# Altium footprint library ECD.PcbLib: 19 footprints (part 1 of 2)
Each footprint in its own frame and in the unit in brackets; x right, y up, seen from the top. Pads: shape width x height; smd on the part's side, far side on the other; paste and mask are expansions set on the pad; w line width, h text height; cw(c..) or ccw(c..) is an arc to the next point about the centre after c.
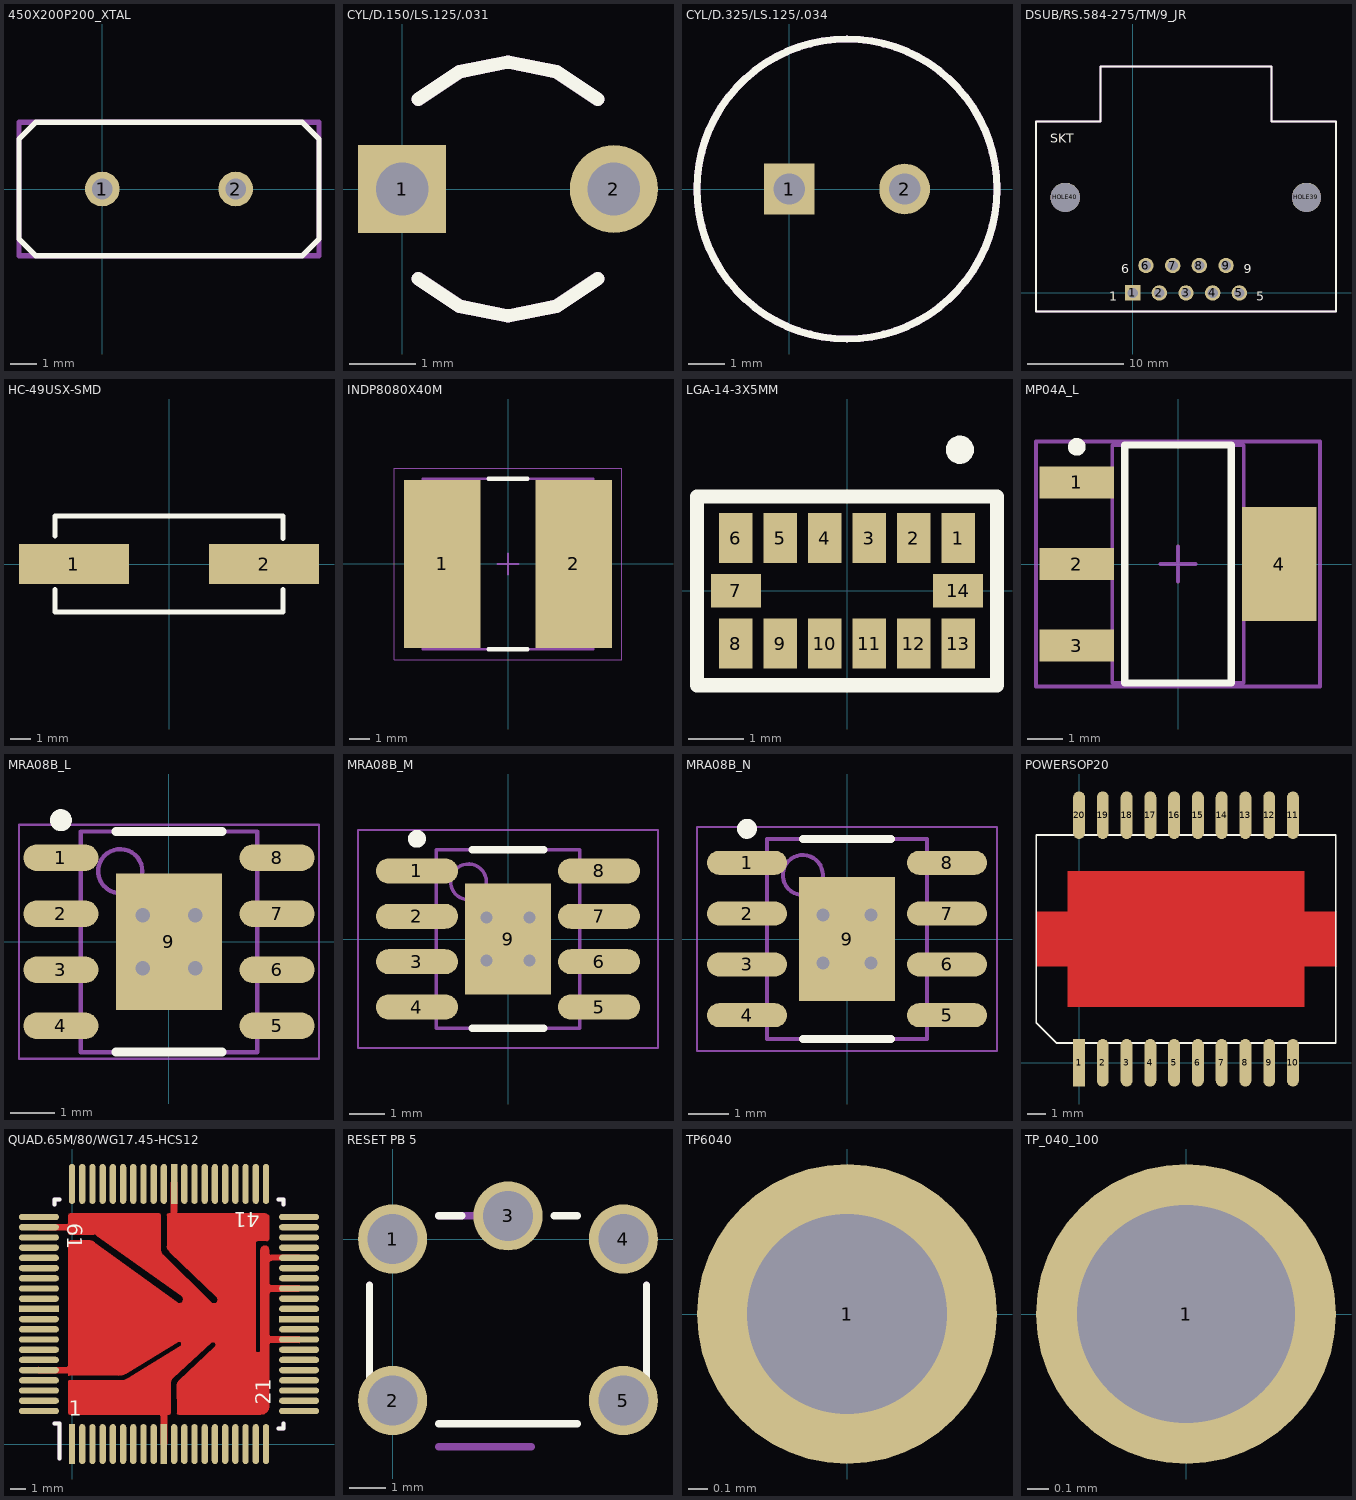
[diagram p0: the footprints below, top view; thin cyan lines are the x and y axes]

## 450X200P200_XTAL [mil]
pads (2):
  round 52 hole 31: 1(0,0) 2(200,0)
Top Overlay:
  lines w8: -125,-75 -125,75 -100,100 300,100 325,75 325,-75 300,-100 -100,-100 -125,-75
Mechanical 1:
  lines w8: -125,-100 -125,100 325,100 325,-100 -125,-100

## CYL/D.150/LS.125/.031 [mil]
pads (2):
  rect 52x52 hole 31: 1(0,0)
  round 52 hole 31: 2(125,0)
Top Overlay:
  lines w8: 9.5,-53 33.9,-69.2 62.5,-74.9 91.1,-69.2 115.5,-53 ; 9.5,53 33.9,69.2 62.5,74.9 91.1,69.2 115.5,53
Mechanical 1:
  lines w8: 9.5,-53 33.9,-69.2 62.5,-74.9 91.1,-69.2 115.5,-53 ; 9.5,53 33.9,69.2 62.5,74.9 91.1,69.2 115.5,53

## CYL/D.325/LS.125/.034 [mil]
pads (2):
  rect 55x55 hole 34: 1(0,0)
  round 55 hole 34: 2(125,0)
Top Overlay:
  lines w8: -100,0 cw(c62.5,0) 62.5,162.5 cw(c62.5,0) 225,0 cw(c62.5,0) 62.5,-162.5 cw(c62.5,0) -100,0
Mechanical 1:
  lines w8: -100,0 cw(c62.5,0) 62.5,162.5 cw(c62.5,0) 225,0 cw(c62.5,0) 62.5,-162.5 cw(c62.5,0) -100,0

## DSUB/RS.584-275/TM/9_JR [mil]
pads (11):
  rect 63x63 hole 42: 1(0,0)
  round 63 hole 42: 2(109,0) 3(218,0) 4(327,0) 5(436,0) 6(54.5,112) 7(163.5,112) 8(272.5,112) 9(381.5,112)
  round 120 hole 120: HOLE39(710,390) HOLE40(-275,390)
Top Overlay:
  lines w8: -394.5,-75.5 -394.5,699.5 -132,699.5 -132,924.5 568,924.5 568,699.5 830.5,699.5 830.5,-75.5 -394.5,-75.5
  text "1" at -95.88,-31.13 h37.5
  text "6" at -45.88,81.38 h37.5
  text "5" at 504.12,-31.13 h37.5
  text "9" at 454.12,81.38 h37.5
  text "SKT" at -336.17,612.38 h37.5
Mechanical 1:
  lines w8: -394.5,-75.5 -394.5,699.5 -132,699.5 -132,924.5 568,924.5 568,699.5 830.5,699.5 830.5,-75.5 -394.5,-75.5
  text "6" at -45.88,81.38 h37.5
  text "5" at 504.12,-31.13 h37.5
  text "9" at 454.12,81.38 h37.5
  text "SKT" at -336.17,612.38 h37.5
  text "1" at -95.88,-31.13 h37.5

## HC-49USX-SMD [mm]
pads (2):
  rect 5.5x2 smd: 1(-4.75,0) 2(4.75,0)
Top Overlay:
  lines w0.254: -5.7,-1.285 -5.7,-2.4 5.7,-2.4 5.7,-1.285 ; -5.7,1.412 -5.7,2.4 5.7,2.4 5.7,1.285
3D body "User Library-HC49_Crystal_SM.step": height 4.5, standoff -0.01, extent -6.95,-2.5 6.95,2.5

## INDP8080X40M [mm] "Precision Wire Wound Inductor, 2-Leads, Body 8.00x8.00mm, IPC Low Density"
height 4
pads (2):
  rect 3.7x8.2 smd: 1(-3.2,0) 2(3.2,0)
Top Overlay:
  lines w0.2: -0.95,-4.15 0.95,-4.15 ; -0.95,4.15 0.95,4.15
Mechanical 13:
  lines w0.1: -4.15,-4.15 4.15,-4.15 4.15,4.15 -4.15,4.15 -4.15,-4.15
Mechanical 15:
  lines w0.05: -5.525,-4.65 5.525,-4.65 5.525,4.65 -5.525,4.65 -5.525,-4.65
  lines w0.1: -0.5,0 0.5,0 ; 0,-0.5 0,0.5
3D body "srn8040.stp": height 4, standoff 0, extent -4,-4 4,4

## LGA-14-3X5MM [mm]
pads (14):
  rect 0.6x0.9 smd: 1(2,0.95) 2(1.2,0.95) 3(0.4,0.95) 4(-0.4,0.95) 5(-1.2,0.95) 6(-2,0.95) 8(-2,-0.95) 9(-1.2,-0.95) 10(-0.4,-0.95) 11(0.4,-0.95) 12(1.2,-0.95) 13(2,-0.95)
  rect 0.9x0.6 smd: 7(-2,0) 14(2,0)
Top Overlay:
  circle w0.254: c2.032,2.54 r0.127
  lines w0.254: -2.7,-1.7 2.7,-1.7 2.7,1.7 -2.7,1.7 -2.7,-1.7
3D body: height 1, standoff 0, extent -2.54,-1.524 2.54,1.524

## MP04A_L [mm] "SOT223, 4-Leads, Body 6.5x3.5mm, Pitch 2.3mm, Lead Span 7mm, IPC High Density"
height 1.8
pads (4):
  rect 2.1x0.9 smd: 1(-2.85,2.3) 2(-2.85,0) 3(-2.85,-2.3)
  rect 2.1x3.2 smd: 4(2.85,0)
Top Overlay:
  circle w0.25: c-2.85,3.3 r0.125
  lines w0.2: -1.5,-3.35 1.5,-3.35 1.5,3.35 -1.5,3.35 -1.5,-3.35
Mechanical 13:
  lines w0.1: -1.85,-3.35 1.85,-3.35 1.85,3.35 -1.85,3.35 -1.85,-3.35
Mechanical 15:
  lines w0.1: -0.5,0 0.5,0 ; 0,-0.5 0,0.5 ; -4,-3.45 4,-3.45 4,3.45 -4,3.45 -4,-3.45
3D body: height 1.8, standoff 0, extent -1.85,-3.35 1.85,3.35

## MRA08B_L [mm] "SOIC, 8-Leads, Body 4.9x3.9mm, Pitch 1.27mm, Exposed Pad, IPC High Density"
height 1.68
pads (9):
  oval 1.7x0.6 smd: 1(-2.45,1.905) 2(-2.45,0.635) 3(-2.45,-0.635) 4(-2.45,-1.905) 5(2.45,-1.905) 6(2.45,-0.635) 7(2.45,0.635) 8(2.45,1.905)
  rect 2.41x3.1 smd: 9(0,0)
via -0.6,0.6 diameter 0.66 hole 0.33
via 0.6,0.6 diameter 0.66 hole 0.33
via 0.6,-0.6 diameter 0.66 hole 0.33
via -0.6,-0.6 diameter 0.66 hole 0.33
Top Overlay:
  circle w0.25: c-2.45,2.755 r0.125
  lines w0.2: -1.2,-2.5 1.2,-2.5 ; -1.2,2.5 1.2,2.5
Mechanical 13:
  circle w0.1: c-1.105,1.6 r0.5
  lines w0.1: -2.005,-2.5 -2.005,2.5 2.005,2.5 2.005,-2.5 -2.005,-2.5
Mechanical 15:
  lines w0.05: -3.4,-2.65 -3.4,2.65 3.4,2.65 3.4,-2.65 -3.4,-2.65
  lines w0.1: -0.5,0 0.5,0 ; 0,-0.5 0,0.5
3D body: height 1.68, standoff 0.03, extent -2.005,-2.5 2.005,2.5

## MRA08B_M [mm] "SOIC, 8-Leads, Body 4.9x3.9mm, Pitch 1.27mm, Thermal Pad, IPC Low Density"
height 1.68
pads (9):
  oval 2.3x0.7 smd: 1(-2.55,1.905) 2(-2.55,0.635) 3(-2.55,-0.635) 4(-2.55,-1.905) 5(2.55,-1.905) 6(2.55,-0.635) 7(2.55,0.635) 8(2.55,1.905)
  rect 2.41x3.1 smd: 9(0,0)
via -0.6,0.6 diameter 0.66 hole 0.33
via 0.6,0.6 diameter 0.66 hole 0.33
via 0.6,-0.6 diameter 0.66 hole 0.33
via -0.6,-0.6 diameter 0.66 hole 0.33
Top Overlay:
  circle w0.25: c-2.55,2.805 r0.125
  lines w0.2: -1,-2.5 1,-2.5 ; -1,2.5 1,2.5
Mechanical 13:
  circle w0.1: c-1.105,1.6 r0.5
  lines w0.1: -2.005,-2.5 -2.005,2.5 2.005,2.5 2.005,-2.5 -2.005,-2.5
Mechanical 15:
  lines w0.05: -4.2,-3.05 -4.2,3.05 4.2,3.05 4.2,-3.05 -4.2,-3.05
  lines w0.1: -0.5,0 0.5,0 ; 0,-0.5 0,0.5
3D body: height 1.68, standoff 0.03, extent -2.005,-2.5 2.005,2.5

## MRA08B_N [mm] "SOIC, 8-Leads, Body 4.9x3.9mm, Pitch 1.27mm, Exposed Pad, IPC Medium Density"
height 1.68
pads (9):
  oval 2x0.6 smd: 1(-2.5,1.905) 2(-2.5,0.635) 3(-2.5,-0.635) 4(-2.5,-1.905) 5(2.5,-1.905) 6(2.5,-0.635) 7(2.5,0.635) 8(2.5,1.905)
  rect 2.41x3.1 smd: 9(0,0)
via -0.6,-0.6 diameter 0.66 hole 0.33
via 0.6,-0.6 diameter 0.66 hole 0.33
via 0.6,0.6 diameter 0.66 hole 0.33
via -0.6,0.6 diameter 0.66 hole 0.33
Top Overlay:
  circle w0.25: c-2.5,2.755 r0.125
  lines w0.2: -1.1,-2.5 1.1,-2.5 ; -1.1,2.5 1.1,2.5
Mechanical 13:
  circle w0.1: c-1.105,1.6 r0.5
  lines w0.1: -2.005,-2.5 -2.005,2.5 2.005,2.5 2.005,-2.5 -2.005,-2.5
Mechanical 15:
  lines w0.05: -3.75,-2.8 -3.75,2.8 3.75,2.8 3.75,-2.8 -3.75,-2.8
  lines w0.1: -0.5,0 0.5,0 ; 0,-0.5 0,0.5
3D body: height 1.68, standoff 0.03, extent -2.005,-2.5 2.005,2.5

## POWERSOP20 [mil]
pads (20):
  rect 25x100 smd: 1(0,0)
  oval 25x100 smd: 2(50,0) 3(100,0) 4(150,0) 5(200,0) 6(250,0) 7(300,0) 8(350,0) 9(400,0) 10(450,0) 11(450,520.85) 12(400,520.85) 13(350,520.85) 14(300,520.85) 15(250,520.85) 16(200,520.85) 17(150,520.85) 18(100,520.85) 19(50,520.85) 20(0,520.85)
Top Layer:
  region: 473.38,402.53 473.54,402.15 473.54,318.06 539.95,318.06 540.33,317.9 540.49,317.52 540.49,203.33 540.33,202.95 539.95,202.79 473.54,202.79 473.54,118.7 473.38,118.32 473,118.16 -23.03,118.16 -23.42,118.32 -23.57,118.7 -23.57,202.79 -89.95,202.79 -90.33,202.95 -90.49,203.33 -90.49,317.52 -90.33,317.9 -89.95,318.06 -23.57,318.06 -23.57,402.15 -23.42,402.53 -23.03,402.69 473,402.69
Top Overlay:
  lines w3.93: -89.95,84.63 -46.65,41.33 -39.37,41.33 539.95,41.33 539.95,479.52 -89.95,479.52 -89.95,84.63
Top Paste:
  region: 473.38,402.53 473.54,402.15 473.54,318.06 539.95,318.06 540.33,317.9 540.49,317.52 540.49,203.33 540.33,202.95 539.95,202.79 473.54,202.79 473.54,118.7 473.38,118.32 473,118.16 -23.03,118.16 -23.42,118.32 -23.57,118.7 -23.57,202.79 -89.95,202.79 -90.33,202.95 -90.49,203.33 -90.49,317.52 -90.33,317.9 -89.95,318.06 -23.57,318.06 -23.57,402.15 -23.42,402.53 -23.03,402.69 473,402.69
Top Solder:
  region: 473.38,402.53 473.54,402.15 473.54,318.06 539.95,318.06 540.33,317.9 540.49,317.52 540.49,203.33 540.33,202.95 539.95,202.79 473.54,202.79 473.54,118.7 473.38,118.32 473,118.16 -23.03,118.16 -23.42,118.32 -23.57,118.7 -23.57,202.79 -89.95,202.79 -90.33,202.95 -90.49,203.33 -90.49,317.52 -90.33,317.9 -89.95,318.06 -23.57,318.06 -23.57,402.15 -23.42,402.53 -23.03,402.69 473,402.69
3D body "User Library-HSOP_20pin_IC-MC33886PVW.step": height 127.87, standoff 1.88, extent -89.96,-20.51 539.96,540.51

## QUAD.65M/80/WG17.45-HCS12 [mil]
pads (80):
  rect 16x100 smd paste-3897.64: 1(0,0) 10(230.4,0) 50(256,652.4)
  oval 16x100 smd paste-3897.64: 2(25.6,0) 3(51.2,0) 4(76.8,0) 5(102.4,0) 6(128,0) 7(153.6,0) 8(179.2,0) 9(204.8,0) 11(256,0) 12(281.6,0) 13(307.2,0) 14(332.8,0) 15(358.4,0) 16(384,0) 17(409.6,0) 18(435.2,0) 19(460.8,0) 20(486.4,0) 41(486.4,652.4) 42(460.8,652.4) 43(435.2,652.4) 44(409.6,652.4) 45(384,652.4) 46(358.4,652.4) 47(332.8,652.4) 48(307.2,652.4) 49(281.6,652.4) 51(230.4,652.4) 52(204.8,652.4) 53(179.2,652.4) 54(153.6,652.4) 55(128,652.4) 56(102.4,652.4) 57(76.8,652.4) 58(51.2,652.4) 59(25.6,652.4) 60(0,652.4)
  oval 100x16 smd paste-3897.64: 21(569.4,83) 22(569.4,108.6) 23(569.4,134.2) 24(569.4,159.8) 25(569.4,185.4) 26(569.4,211) 27(569.4,236.6) 28(569.4,262.2) 29(569.4,287.8) 31(569.4,339) 32(569.4,364.6) 33(569.4,390.2) 34(569.4,415.8) 35(569.4,441.4) 36(569.4,467) 37(569.4,492.6) 38(569.4,518.2) 39(569.4,543.8) 40(569.4,569.4) 61(-83,569.4) 62(-83,543.8) 63(-83,518.2) 64(-83,492.6) 65(-83,467) 66(-83,441.4) 67(-83,415.8) 68(-83,390.2) 69(-83,364.6) 71(-83,313.4) 72(-83,287.8) 73(-83,262.2) 74(-83,236.6) 75(-83,211) 76(-83,185.4) 77(-83,159.8) 78(-83,134.2) 79(-83,108.6) 80(-83,83)
  rect 100x16 smd paste-3897.64: 30(569.4,313.4) 70(-83,339)
Top Layer:
  region: 604 vertices and 0 holes, not listed, extent -84.54,-0.54 570.54,656.54
Top Overlay:
  lines w10: -44.3,51.2 -31.8,51.2 -31.8,-36.3 ; -44.3,601.2 -44.3,613.7 -31.8,613.7 ; 518.2,38.7 530.7,38.7 530.7,51.2 ; 518.2,613.7 530.7,613.7 530.7,601.2
  text "1" at -8.18,70.58 h37.5
  text "21" at 498.83,98.42 h37.5
  text "41" at 471,581.83 h37.5
  text "61" at -12.43,554 h37.5
Top Paste:
  region: -10,15 495,15 495,-15 -10,-15
  region: 555,75 555,580 585,580 585,75
  region: -10,670 495,670 495,640 -10,640
  region: -95,75 -95,580 -65,580 -65,75
Mechanical 1:
  lines w10: -44.3,51.2 -31.8,51.2 -31.8,-36.3 ; -44.3,601.2 -44.3,613.7 -31.8,613.7 ; 518.2,38.7 530.7,38.7 530.7,51.2 ; 518.2,613.7 530.7,613.7 530.7,601.2
  text "1" at -8.18,70.58 h37.5
  text "21" at 498.83,98.42 h37.5
  text "41" at 471,581.83 h37.5
  text "61" at -12.43,554 h37.5
Mechanical 3:
  lines w4: 230.7,326.2 cw(c243.2,326.2) 243.2,338.7 cw(c243.2,326.2) 255.7,326.2 cw(c243.2,326.2) 243.2,313.7 cw(c243.2,326.2) 230.7,326.2
3D body "User Library-IPC QFP-full.step": height 53.15, standoff 0, extent -70.67,10 560.67,641.35

## RESET PB 5 [mil]
pads (5):
  round 75 hole 54: 1(0,0) 2(0,-175) 3(125,25) 4(250,0) 5(250,-175)
Top Overlay:
  lines w8: -25,-150 -25,-50 ; 50,-200 200,-200 ; 50,25 75,25 ; 175,25 200,25 ; 275,-150 275,-50
Mechanical 1:
  lines w8: -25,-150 -25,-50 ; 50,-225 150,-225 ; 50,25 150,25 ; 275,-150 275,-50

## TP6040 [mil]
pads (1):
  round 60 hole 40: 1(0,0)

## TP_040_100 [mil]
pads (1):
  round 55 hole 40: 1(0,0)